# Altium schematic symbol library Sensors.SchLib: 2 symbols
Pins are listed as number, name and electrical type; pins without a type are passive.

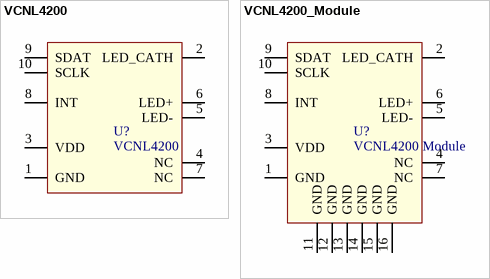
[diagram p0: symbols VCNL4200 to VCNL4200_Module]

## VCNL4200
designator U?
Optical Sensor Ambient 550nm I²C 10-SMD Module; MANUFACTURER: Vishay; EE_SPEC: 3.3V,5V; MANUFACTURER #: VCNL4200; PART: VCNL4200; PART DESCRIPTION: Optical Sensor Ambient 550nm I²C 10-SMD Module
footprint VCNL4200 (PQFN, 8-Leads, Body 8.00x3.00mm, Pitch 1.70mm/0.50mm, IPC Low Density)
pins: 1 GND (power) "1", 2 LED_CATH (power) "1", 3 VDD (power) "1", 4 NC (power) "1", 5 LED- (power) "1", 6 LED+ (power) "1", 7 NC (power) "1", 8 INT (power) "1", 9 SDAT (power) "1", 10 SCLK (power) "1"
1 alternate drawing of the same symbol

## VCNL4200_Module
designator U?, comment VCNL4200 Module
Optical Sensor Ambient 550nm I²C 10-SMD Module; MANUFACTURER #: UltiMachine; MANUFACTURER: Vishay; EE_SPEC: 3.3V,5V; PART: VCNL4200 Module; PART DESCRIPTION: Optical Sensor Ambient 550nm I²C 10-SMD Module
footprint VCNL4200 Castle (PQFN, 8-Leads, Body 8.00x3.00mm, Pitch 1.70mm/0.50mm, IPC Low Density)
pins: 1 GND (power) "1", 2 LED_CATH (power) "1", 3 VDD (power) "1", 4 NC (power) "1", 5 LED- (power) "1", 6 LED+ (power) "1", 7 NC (power) "1", 8 INT (power) "1", 9 SDAT (power) "1", 10 SCLK (power) "1", 11 GND (power) "1", 12 GND (power) "1", 13 GND (power) "1", 14 GND (power) "1", 15 GND (power) "1", 16 GND (power) "1"
1 alternate drawing of the same symbol